# EAGLE library part MCP3428-E/SL-ND (library IanADC)
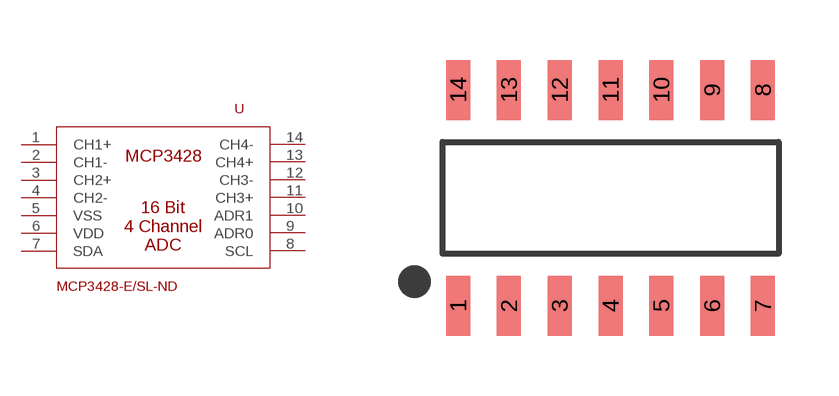
[diagram p0: symbol with the pads of 14SOIC; footprint 14SOIC]

Designator prefix -

## MCP3428-E/SL-ND  [14SOIC]
1  CH1+
2  CH1-
3  CH2+
4  CH2-
5  VSS  pwr
6  VDD  pwr
7  SDA
8  SCL
9  ADR0
10  ADR1
11  CH3+
12  CH3-
13  CH4+
14  CH4-

## Footprint 14SOIC (pad centres in mm)
smd 0.6 x 1.5: 1 -3.81,-2.7; 2 -2.54,-2.7; 3 -1.27,-2.7; 4 0,-2.7; 5 1.27,-2.7; 6 2.54,-2.7; 7 3.81,-2.7; 8 3.81,2.7; 9 2.54,2.7; 10 1.27,2.7; 11 0,2.7; 12 -1.27,2.7; 13 -2.54,2.7; 14 -3.81,2.7